# EAGLE library part QBIT2-WIREBOND-CRYO2 (library meng)
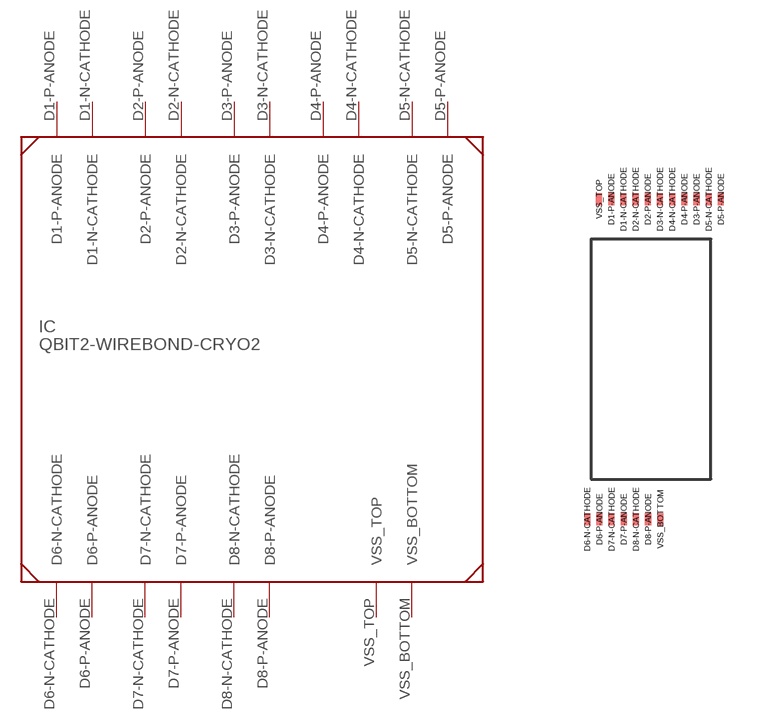
[diagram p25: symbol with the pads of QBIT2-WIREBOND-CRYO2; footprint QBIT2-WIREBOND-CRYO2]

Designator prefix IC

## QBIT2-WIREBOND-CRYO2  [QBIT2-WIREBOND-CRYO2]
D1-N-CATHODE  D1-N-CATHODE
D1-P-ANODE  D1-P-ANODE
D2-N-CATHODE  D2-N-CATHODE
D2-P-ANODE  D2-P-ANODE
D3-N-CATHODE  D3-N-CATHODE
D3-P-ANODE  D3-P-ANODE
D4-N-CATHODE  D4-N-CATHODE
D4-P-ANODE  D4-P-ANODE
D5-N-CATHODE  D5-N-CATHODE
D5-P-ANODE  D5-P-ANODE
D6-N-CATHODE  D6-N-CATHODE
D6-P-ANODE  D6-P-ANODE
D7-N-CATHODE  D7-N-CATHODE
D7-P-ANODE  D7-P-ANODE
D8-N-CATHODE  D8-N-CATHODE
D8-P-ANODE  D8-P-ANODE
VSS_BOTTOM  VSS_BOTTOM
VSS_TOP  VSS_TOP

## Footprint QBIT2-WIREBOND-CRYO2 (pad centres in mm)
smd 0.152 x 0.305: D1-N-CATHODE -0.691,4; D1-P-ANODE -0.996,4; D2-N-CATHODE -0.386,4; D2-P-ANODE -0.082,4; D3-N-CATHODE 0.223,4; D3-P-ANODE 1.138,4; D4-N-CATHODE 0.528,4; D4-P-ANODE 0.833,4; D5-N-CATHODE 1.442,4; D5-P-ANODE 1.747,4; D6-N-CATHODE -1.598,-4; D6-P-ANODE -1.293,-4; D7-N-CATHODE -0.988,-4; D7-P-ANODE -0.683,-4; D8-N-CATHODE -0.378,-4; D8-P-ANODE -0.074,-4; VSS_BOTTOM 0.231,-4; VSS_TOP -1.301,4